# Altium footprint library 晶振.PcbLib: 2 footprints
Each footprint in its own frame and in the unit in brackets; x right, y up, seen from the top. Pads: shape width x height; smd on the part's side, far side on the other; paste and mask are expansions set on the pad; w line width, h text height; cw(c..) or ccw(c..) is an arc to the next point about the centre after c.
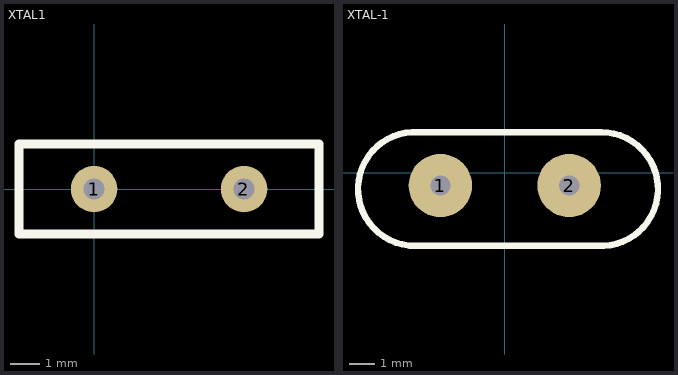
[diagram p0: the footprints below, top view; thin cyan lines are the x and y axes]

## XTAL1 [mil]
pads (2):
  round 62 hole 28: 1(0,0) 2(200,0)
TopOverlay:
  lines w12: -100,-60 -100,60 300,60 300,-60 -100,-60

## XTAL-1 [mm]
pads (2):
  round 2.5 hole 0.8: 1(-2.54,-0.508) 2(2.54,-0.508)
TopOverlay:
  lines w0.254: -3.746,-2.887 3.654,-2.887 ccw(c3.8,-0.646) 3.8,1.6 -3.6,1.6 ; -3.546,-2.887 cw(c-3.546,-0.641) -3.4,1.6